# Altium footprint library Buck_Module.PcbLib: 3 footprints
Each footprint in its own frame and in the unit in brackets; x right, y up, seen from the top. Pads: shape width x height; smd on the part's side, far side on the other; paste and mask are expansions set on the pad; w line width, h text height; cw(c..) or ccw(c..) is an arc to the next point about the centre after c.
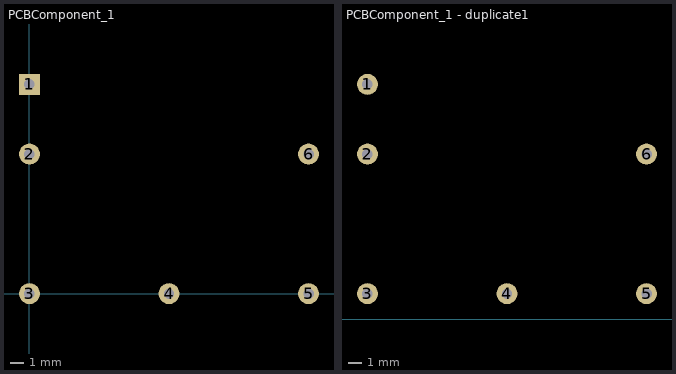
[diagram p0: the footprints below, top view; thin cyan lines are the x and y axes]

## PCBComponent_1 [mil]
pads (6):
  rect 60x60 hole 30: 1(0,600)
  round 60 hole 30: 2(0,400) 3(0,0) 4(400,0) 5(800,0) 6(800,400)

## PCBComponent_1 - duplicate [mil]

## PCBComponent_1 - duplicate1 [mil]
pads (6):
  round 60 hole 30: 1(102.36,673.23) 2(102.36,473.23) 3(102.36,73.23) 4(502.36,73.23) 5(902.36,73.23) 6(902.36,473.23)